# EAGLE library part ESP32 (library esp32)
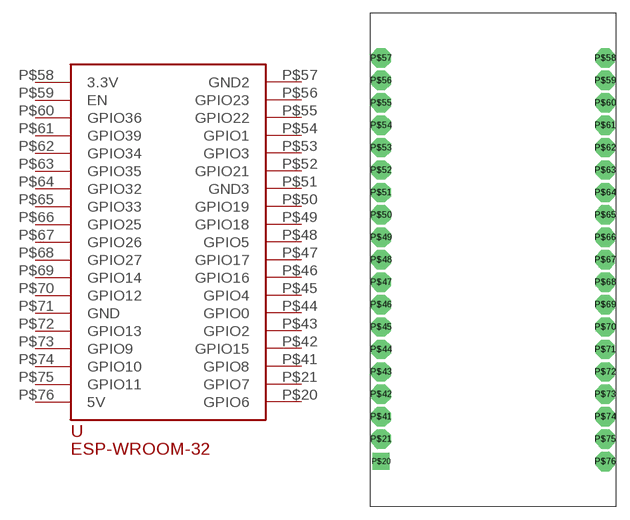
[diagram p0: symbol with the pads of ESP32; footprint ESP32]

Designator prefix -

## ESP32ESP-WROOM-32  [ESP32]
P$20  GPIO6
P$21  GPIO7
P$41  GPIO8
P$42  GPIO15
P$43  GPIO2
P$44  GPIO0
P$45  GPIO4
P$46  GPIO16
P$47  GPIO17
P$48  GPIO5
P$49  GPIO18
P$50  GPIO19
P$51  GND3
P$52  GPIO21
P$53  GPIO3
P$54  GPIO1
P$55  GPIO22
P$56  GPIO23
P$57  GND2
P$58  3.3V
P$59  EN
P$60  GPIO36
P$61  GPIO39
P$62  GPIO34
P$63  GPIO35
P$64  GPIO32
P$65  GPIO33
P$66  GPIO25
P$67  GPIO26
P$68  GPIO27
P$69  GPIO14
P$70  GPIO12
P$71  GND
P$72  GPIO13
P$73  GPIO9
P$74  GPIO10
P$75  GPIO11
P$76  5V

## Footprint ESP32 (pad centres in mm)
drill 0.6 pad 1.93 square: P$20 -60.96,-30.48
drill 0.65 pad 2.184 octagon: P$21 -60.96,-27.94; P$41 -60.96,-25.4; P$42 -60.96,-22.86; P$43 -60.96,-20.32; P$44 -60.96,-17.78; P$45 -60.96,-15.24; P$46 -60.96,-12.7; P$47 -60.96,-10.16; P$48 -60.96,-7.62; P$49 -60.96,-5.08; P$50 -60.96,-2.54; P$51 -60.96,0; P$52 -60.96,2.54; P$53 -60.96,5.08; P$54 -60.96,7.62; P$55 -60.96,10.16; P$56 -60.96,12.7; P$57 -60.96,15.24; P$58 -35.56,15.24; P$59 -35.56,12.7; P$60 -35.56,10.16; P$61 -35.56,7.62; P$62 -35.56,5.08; P$63 -35.56,2.54; P$64 -35.56,0; P$65 -35.56,-2.54; P$66 -35.56,-5.08; P$67 -35.56,-7.62; P$68 -35.56,-10.16; P$69 -35.56,-12.7; P$70 -35.56,-15.24; P$71 -35.56,-17.78; P$72 -35.56,-20.32; P$73 -35.56,-22.86; P$74 -35.56,-25.4; P$75 -35.56,-27.94; P$76 -35.56,-30.48